# EAGLE library part S-1711 (library ICs)
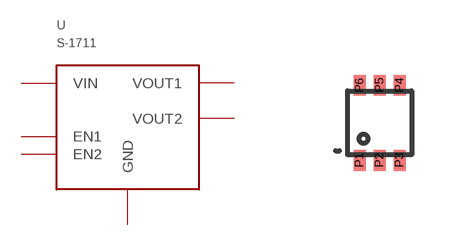
[diagram p1: symbol with the pads of SNT-6A; footprint SNT-6A]

Designator prefix U

## S-1711  [SNT-6A]
P1  VOUT1
P2  VIN  in
P3  VOUT2
P4  EN2  in
P5  GND  pwr
P6  EN1  in

## Footprint SNT-6A (pad centres in mm)
smd 0.3 x 0.52: P1 -0.5,-0.94; P2 0,-0.94; P3 0.5,-0.94; P4 0.5,0.94; P5 0,0.94; P6 -0.5,0.94